# Altium schematic symbol library 3PhaseMotorDriver.SchLib: 49 symbols
Pins are listed as number, name and electrical type; pins without a type are passive.

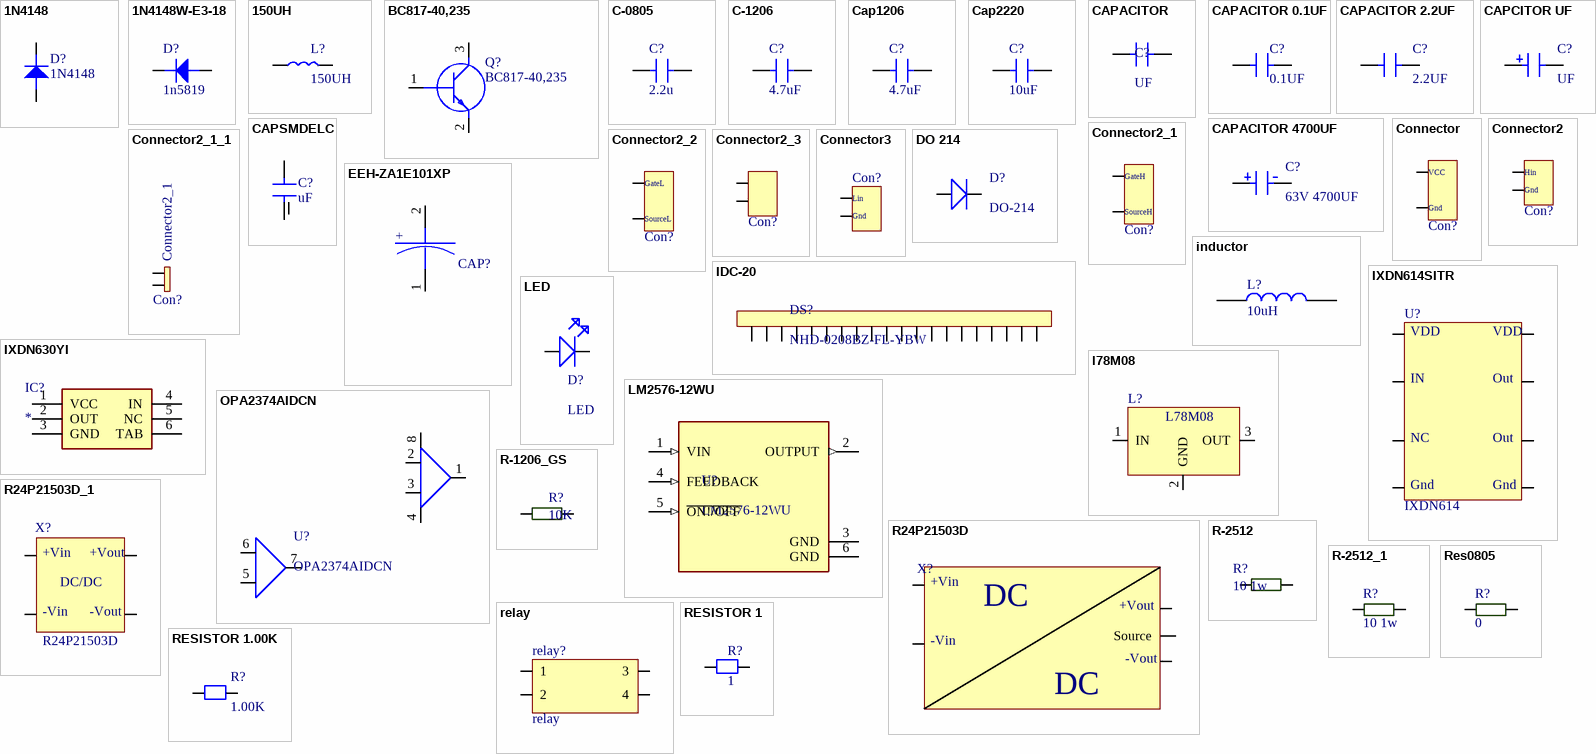
[diagram p0: symbols 1N4148 to RESISTOR 1.00K]

## 1N4148
designator D?
DIODE FAST SWITCHING Single 150mA 75V SMT SOD323
footprint SOD123
pins: a, k

## 1N4148W-E3-18
designator D?, comment 1n5819
DIODE SCHOTTKY 1A 40V SOD123; Manufacturer: HOTTECH; Özdisan Part Number: B5819W; ComponentLink1URL: https://datasheet.ciiva.com/29885/1n4148w-29885941.pdf?src-supplier=Avnet; ComponentLink1Description: https://datasheet.ciiva.com/29885/1n4148w-29885941.pdf?src-supplier=Avnet; ComponentLink2URL: https://datasheet.ciiva.com/29593/1n4148w-29593113.pdf?src-supplier=Digi-Key; ComponentLink2Description: https://datasheet.ciiva.com/29593/1n4148w-29593113.pdf?src-supplier=Digi-Key; ComponentLink3URL: https://datasheet.ciiva.com/29593/1n4148w-29593111.pdf?src-supplier=Digi-Key; ComponentLink3Description: https://datasheet.ciiva.com/29593/1n4148w-29593111.pdf?src-supplier=Digi-Key; ComponentLink4URL: https://datasheet.ciiva.com/29593/1n4148w-29593112.pdf?src-supplier=Digi-Key; ComponentLink4Description: https://datasheet.ciiva.com/29593/1n4148w-29593112.pdf?src-supplier=Digi-Key; Link: https://www.ozdisan.com/guc-yari-iletkenleri/diyot-modul-diyot-dogrultucular/schottky-diyotlar/B5819W; Price: 0,04258
footprint SOD123
pins: a, k

## 150UH
designator L?
footprint IND_B1047AS-151M=P3
pins: 1, 2

## BC817-40,235
designator Q?
Transistor BJT NPN; Manufacturer_Name: Nexperia; Datasheet Link: http://assets.nexperia.com/documents/data-sheet/BC817_BC817W_BC337.pdf; Height: 1.1mm; Manufacturer_Part_Number: BC817-40,235; Mouser Part Number: 771-BC817-40235; Mouser Price/Stock: https://www.mouser.com/Search/Refine.aspx?Keyword=771-BC817-40235; RS Part Number: 1707957; RS Price/Stock: http://uk.rs-online.com/web/p/products/1707957
footprint SOT95P230X110-3N
pins: 1 B, 2 E, 3 C

## C-0805
designator C?, comment 2.2u
MLCC (2012) 0805 2.2uF 50VDC ±10% X5R; Manufacturer: SAMSUNG; Özdisan Part Number: CL21A225KBQNNNE; Price: 0,04880; Link: https://www.ozdisan.com/pasif-komponentler/kondansatorler/smd-kondansatorler-mlcc/CL21A225KBQNNNE
footprint C-0805
pins: 1, 2

## C-1206
designator C?, comment 4.7uF
MLCC (3216) 1206 4.7uF 50VDC ±10% X7R; Özdisan Part Number: CL31B475KBHNNNE; Manufacturer: SAMSUNG; Link: https://www.ozdisan.com/pasif-komponentler/kondansatorler/smd-kondansatorler-mlcc/CL31B475KBHNNNE; Price: 0,10407
footprint C-1206
pins: 1, 2

## Cap1206
designator C?, comment 4.7uF
MLCC (3216) 1206 4.7uF 50VDC ±10% X7R; Özdisan Part Number: CL31B475KBHNNNE; Manufacturer: SAMSUNG; Link: https://www.ozdisan.com/pasif-komponentler/kondansatorler/smd-kondansatorler-mlcc/CL31B475KBHNNNE; Price: 0,10407
footprint C-1206
pins: 1, 2

## Cap2220
designator C?, comment 10uF
2220; Özdisan Part Number: CL31B475KBHNNNE; Manufacturer: SAMSUNG; Link: https://www.ozdisan.com/pasif-komponentler/kondansatorler/smd-kondansatorler-mlcc/CL31B475KBHNNNE; Price: 0,10407
footprint C-2220R (capacitor 2220 reflow soldering)
pins: 1, 2

## CAPACITOR
designator C?, comment UF
footprint C-1206W (capacitor 1206 wave soldering)
pins: 1, 2

## CAPACITOR 0.1UF
designator C?, comment 0.1UF
0603
footprint C-0603W (capacitor 0603 wave soldering)
pins: 1, 2

## CAPACITOR 2.2UF
designator C?, comment 2.2UF
0603
footprint C-0603W (capacitor 0603 wave soldering)
pins: 1, 2

## CAPACITOR 4700UF
designator C?, comment 63V 4700UF
footprint Koshin 63v 4700 cap
footprint Koshin 63v 4700 cap
pins: 1, 2

## CAPCITOR UF
designator C?, comment UF
ALUMİNUM ELECTROLYTIC CAPACITOR
footprint CapSmdElc (Aluminum Electrolytic Capacitor, Body 6.70x6.70x6.30mm, IPC Low Density)
footprint CapSmdElc (Aluminum Electrolytic Capacitor, Body 6.70x6.70x6.30mm, IPC Low Density)
pins: 1, 2

## CAPSMDELC
designator C?, comment uF
footprint CapSmdElc (Aluminum Electrolytic Capacitor, Body 6.70x6.70x6.30mm, IPC Low Density)
pins: 1, 2

## Connector
designator Con?  (value not drawn)
PIN HEADER 40PIN(1x40) 2.54mm THT V/T; Özdisan Part Number: KLS1-207-1-40-S-3X9.5X15; Manufacturer: KLS ELECTRONIC; Link: https://www.ozdisan.com/konnektor-baglanti-elemanlari/headers/pin-header/KLS1-207-1-40-S-3X9-5X15; Price: 0,17227
footprint Conn
pins: 1, 2
text: VCC; Gnd

## Connector2
designator Con?  (value not drawn)
PIN HEADER 40PIN(1x40) 2.54mm THT V/T; Özdisan Part Number: KLS1-207-1-40-S-3X9.5X15; Manufacturer: KLS ELECTRONIC; Price: 0,17227; Link: https://www.ozdisan.com/konnektor-baglanti-elemanlari/headers/pin-header/KLS1-207-1-40-S-3X9-5X15
footprint Conn
pins: 1, 2
text: Hin; Gnd

## Connector2_1
designator Con?  (value not drawn)
PIN HEADER 40PIN(1x40) 2.54mm THT V/T; Özdisan Part Number: KLS1-207-1-40-S-3X9.5X15; Manufacturer: KLS ELECTRONIC; Price: 0,17227; Link: https://www.ozdisan.com/konnektor-baglanti-elemanlari/headers/pin-header/KLS1-207-1-40-S-3X9-5X15
footprint Conn
pins: 1, 2
text: GateH; SourceH

## Connector2_1_1
designator Con?, comment Connector2_1
System: Connector
footprint 2pinCon
pins: 1, 2

## Connector2_2
designator Con?  (value not drawn)
PIN HEADER 40PIN(1x40) 2.54mm THT V/T; Özdisan Part Number: KLS1-207-1-40-S-3X9.5X15; Manufacturer: KLS ELECTRONIC; Price: 0,17227; Link: https://www.ozdisan.com/konnektor-baglanti-elemanlari/headers/pin-header/KLS1-207-1-40-S-3X9-5X15
footprint Conn
pins: 1, 2
text: GateL; SourceL

## Connector2_3
designator Con?, comment Connector2  (value not drawn)
PIN HEADER 40PIN(1x40) 2.54mm THT V/T; Özdisan Part Number: KLS1-207-1-40-S-3X9.5X15; Manufacturer: KLS ELECTRONIC; Price: 0,17227; Link: https://www.ozdisan.com/konnektor-baglanti-elemanlari/headers/pin-header/KLS1-207-1-40-S-3X9-5X15
footprint Conn
pins: 1, 2

## Connector3
designator Con?  (value not drawn)
PIN HEADER 40PIN(1x40) 2.54mm THT V/T; Özdisan Part Number: KLS1-207-1-40-S-3X9.5X15; Manufacturer: KLS ELECTRONIC; Link: https://www.ozdisan.com/konnektor-baglanti-elemanlari/headers/pin-header/KLS1-207-1-40-S-3X9-5X15; Price: 0,17227
footprint Conn
pins: 1, 2
text: Lin; Gnd

## DO 214
designator D?, comment DO-214
footprint DO-214AC
pins: a 1, k 2

## EEH-ZA1E101XP
designator CAP?, comment VZH100M1HTR-0606  (value not drawn)
Supplier 1: Mouser; Supplier Part Number 1: 667-EEH-ZA1E101XP
footprint EEH-ZA1E101XP
pins: 1, 2 +

## IDC-20
designator DS?, comment NHD-0208BZ-FL-YBW
footprint idc20
pins: 1, 2, 3, 4, 5, 6, 7, 8, 9, 10, 11, 12, 13, 14, 15, 16, 17, 18, 19, 20

## inductor
designator L?, comment 10uH
INDUCTOR POWER 10UH 2.8X2.8X2.8MM SMD; Özdisan Part Number: 744025100; Manufacturer: WURTH; Link: https://www.ozdisan.com/pasif-komponentler/induktorler/sabit-induktor/744025100; Price: 0,74325
footprint WE-TPC_282892
pins: 1, 2

## IXDN614SITR
designator U?, comment IXDN614
IC-614 DRIVER MOSFET/IGBT SOIC8 IXYS CLARE; Özdisan Part Number: IXDN614SI; ComponentLink1URL: https://datasheet.ciiva.com/6613/ixd-614-6613145.pdf?src-supplier=Digi-Key; ComponentLink1Description: https://datasheet.ciiva.com/6613/ixd-614-6613145.pdf?src-supplier=Digi-Key; Manufacturer: IXYS CLARE; Price: 3,90467; Link: https://www.ozdisan.com/entegre-devreler-ics/guc-entegreleri/ic-guc-surucu-entegreleri/IXDN614SI
footprint FAN3122 Soic8 (SOIC, 8-Leads, Body 4.95x3.95mm, Pitch 1.27mm, Thermal Pad 4.10x3.10mm, IPC Medium Density)
pins: 1, 2, 3, 4, 5, 6, 7, 8
text: VDD; IN; Out; NC; Gnd

## IXDN630YI
designator IC?
Integrated Circuit; Manufacturer_Name: IXYS SEMICONDUCTOR; Manufacturer_Part_Number: IXDN630YI; Datasheet Link: https://www.mouser.com/datasheet/2/240/IXD_630-1545995.pdf; Mouser Part Number: 849-IXDN630YI; Mouser Price/Stock: https://www.mouser.co.uk/ProductDetail/IXYS-Integrated-Circuits/IXDN630YI?qs=uhAJVUz%252BE3%2FH75bq1SGVng%3D%3D; Arrow Part Number: IXDN630YI; Arrow Price/Stock: https://www.arrow.com/en/products/ixdn630yi/ixys
footprint 5-LEAD_TO-263
pins: 1 VCC, 2 OUT, 3 GND, 4 IN, 5 NC, 6 TAB

## l78M08
designator L?  (value not drawn)
footprint L7805 (l7805)
pins: 1 IN, 2 GND, 3 OUT
text: L78M08

## LED
designator D?
footprint 3.5X2.8X1.9 LED SMD (SM LED; 2 C-Bend Leads; Body 3.5 x 2.8 x 1.9 mm, inc leads (LxWxH typ))
pins: 1, 2

## LM2576-12WU
designator U?
footprint TO17P1435X465-6N
pins: 1 VIN (in), 2 OUTPUT (out), 3 GND (power), 4 FEEDBACK (in), 5 ~{ON!/OFF} (in), 6 GND (power)

## OPA2374AIDCN
designator U?
footprint FAN3122 Soic8 - duplicate (SOIC, 8-Leads, Body 4.95x3.95mm, Pitch 1.27mm, Thermal Pad 4.10x3.10mm, IPC Medium Density)
pins: 1, 2, 3, 4, 5, 6, 7, 8

## R24P21503D
designator X?
Manufacturer: Recom; Manufacturer Part Number: R24P21503D; Max Output Voltage: 15V; Supplier 1: Digi-Key; RoHS: No; Stock 1: 378; Pricing 1: 1 = 8.78000, 5 = 8.71200, 10 = 8.64500, 25 = 8.51200, 50 = 8.24600, 100 = 7.44800, 250 = 7.31500, 500 = 7.18200 (USD); Weight: 4.3g; Length: 19.5mm; Height: 12.5mm; Width: 9.8mm; Supplier Part Number 1: 945-3071-5-ND
footprint SIP7
pins: 1, 2, 5, 6 Source, 7
text: +Vin; DC; +Vout; -Vin; -Vout

## R24P21503D_1
designator X?, comment R24P21503D
Manufacturer: Recom; Max Output Voltage: 15V; Supplier 1: Digi-Key; Manufacturer Part Number: R24P21503D; RoHS: No; Stock 1: 378; Pricing 1: 1 = 8.78000, 5 = 8.71200, 10 = 8.64500, 25 = 8.51200, 50 = 8.24600, 100 = 7.44800, 250 = 7.31500, 500 = 7.18200 (USD); Weight: 4.3g; Length: 19.5mm; Height: 12.5mm; Width: 9.8mm; Supplier Part Number 1: 945-3071-5-ND
footprint SIP7
pins: 1, 2, 5, 7
text: +Vin; +Vout; DC/DC; -Vin; -Vout

## R-1206_GS
designator R?, comment 10K
1206S4F1002T5E; ComponentLink1Description: link; ComponentLink1URL: https://www.ozdisan.com/pasif-komponentler/direncler/smt-smd-direncler/1206S4F1002T5E
footprint R-1206
pins: 1, 2

## R-2512
designator R?, comment 10 1w
footprint R-2512W (resistor 2512 wave soldering)
pins: 1, 2

## R-2512_1
designator R?, comment 10 1w
RES.(6432) 2512 5.1 Ohms 5% 1W 400PPM; Manufacturer: ROYALOHM; Özdisan Part Number: 25121WJ051JT4E; Price: 0,02294; Link: https://www.ozdisan.com/pasif-komponentler/direncler/smt-smd-direncler/25121WJ051JT4E
footprint R-2512
pins: 1, 2

## relay
designator relay?
footprint Relay
pins: 1, 2, 3, 4

## Res0805
designator R?, comment 0
RES.(2012) 0805 0 Ohms 5% 1/8W-S 800PPM; Manufacturer: ROYALOHM; Özdisan Part Number: 0805S8J0000T5E; Link: https://www.ozdisan.com/pasif-komponentler/direncler/smt-smd-direncler/0805S8J0000T5E; Price: 0,00234
footprint R-0805
pins: 1, 2

## RESISTOR 1
designator R?, comment 1
2512
footprint R-2512W (resistor 2512 wave soldering)
footprint R-2512W (resistor 2512 wave soldering)
pins: 1, 2

## RESISTOR 1.00K
designator R?, comment 1.00K
0603
footprint R-0603W (resistor 0603 wave soldering)
footprint R-0805
pins: 1, 2

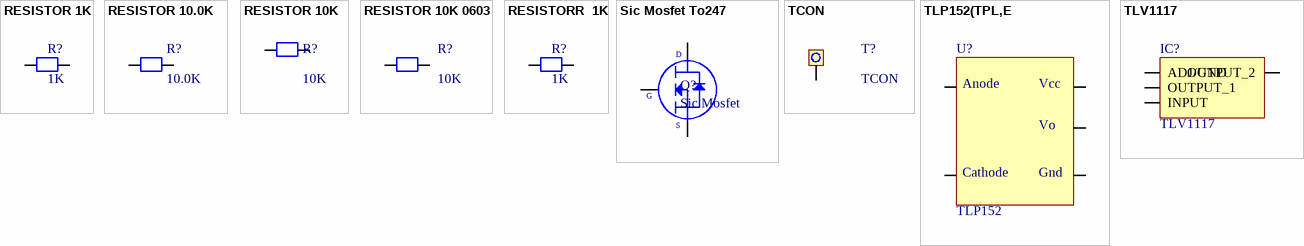
[diagram p1: symbols RESISTOR 1K to TLV1117]

## RESISTOR 1K
designator R?, comment 1K
1210
footprint R-1210R (resistor 1210 reflow soldering)
footprint R-1210
pins: 1, 2

## RESISTOR 10.0K
designator R?, comment 10.0K
0603
footprint R-0805
footprint R-0805
pins: 1, 2

## RESISTOR 10K
designator R?, comment 10K
1206
footprint R-1206
footprint R-1206 - duplicate1
pins: 1, 2

## RESISTOR 10K 0603
designator R?, comment 10K
0603
footprint R-0805
pins: 1, 2

## RESISTORR  1K
designator R?, comment 1K
footprint 14-1210 (Chip Resistor, Body 3.2x2.5mm, IPC High Density)
pins: 1, 2

## Sic Mosfet To247
designator Q?, comment Sic Mosfet
SiC Mosfet To247
footprint 247
pins: 1, 2, 3
text: D; G; S

## TCON
designator T?
footprint tCon
pins: 1

## TLP152(TPL,E
designator U?, comment TLP152
IC-152 PHOTOCOUPLER GATE DRIVE SO6 TOSHIBA; Özdisan Part Number: TLP152(TPL,E; ComponentLink1URL: https://datasheet.ciiva.com/41848/tlp152-datasheet-en-20120914-41848928.pdf?src-supplier=Digi-Key; ComponentLink1Description: https://datasheet.ciiva.com/41848/tlp152-datasheet-en-20120914-41848928.pdf?src-supplier=Digi-Key; Price: 0,80155; Link: https://www.ozdisan.com/optolar-sensorler/optolar/gate-surucu-optokuplorleri/TLP152TPLE; Manufacturer: TOSHIBA
footprint TLP152 (SOTFL, 5-Leads, Body 3.75x7.20mm, Pitch 1.27mm, IPC Medium Density)
pins: 1, 2, 3, 4, 5
text: Anode; Vcc; Vo; Cathode; Gnd

## TLV1117
designator IC?
footprint TLV1117
pins: 1 ADJ/GND, 2 OUTPUT_1, 2 OUTPUT_2, 3 INPUT